# Altium integrated library TYPE_C_D_231__KLS1_5463.IntLib: 1 symbol
Pins are listed as number, name and electrical type; pins without a type are passive.

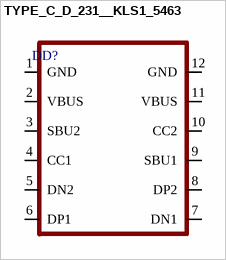
[diagram p0: symbol TYPE_C_D_231__KLS1_5463]

## TYPE_C_D_231__KLS1_5463
designator DD?
footprint TYPE-C-D-231__KLS1-5463
pins: 1 GND, 2 VBUS, 3 SBU2, 4 CC1, 5 DN2, 6 DP1, 7 DN1, 8 DP2, 9 SBU1, 10 CC2, 11 VBUS, 12 GND